# Altium schematic symbol library PCBComponents.SchLib: 8 symbols
Pins are listed as number, name and electrical type; pins without a type are passive.

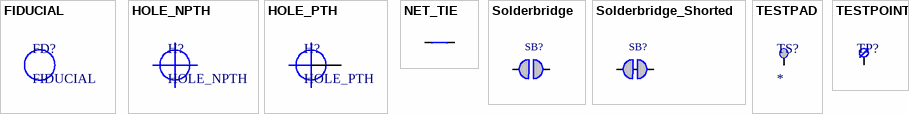
[diagram p0: symbols FIDUCIAL to TESTPOINT]

## FIDUCIAL
designator FD?

## HOLE_NPTH
designator H?  (no BOM)

## HOLE_PTH
designator H?  (no BOM)
pins: 0

## NET_TIE
designator NT?, comment NET_TIE2  (value not drawn)  (net tie, no BOM)
Net-Tie for 2 Nets
pins: 1, 2

## Solderbridge
designator SB?
pins: 1, 2

## Solderbridge_Shorted
designator SB?  (net tie)
pins: 1, 2

## TESTPAD
designator TS?  (no BOM)
pins: 1 TP "Testpad"

## TESTPOINT
designator TP?, comment TESTPAD  (value not drawn)  (no BOM)
pins: 1